# Altium footprint library Header34.PcbLib: 1 footprints
Each footprint in its own frame and in the unit in brackets; x right, y up, seen from the top. Pads: shape width x height; smd on the part's side, far side on the other; paste and mask are expansions set on the pad; w line width, h text height; cw(c..) or ccw(c..) is an arc to the next point about the centre after c.
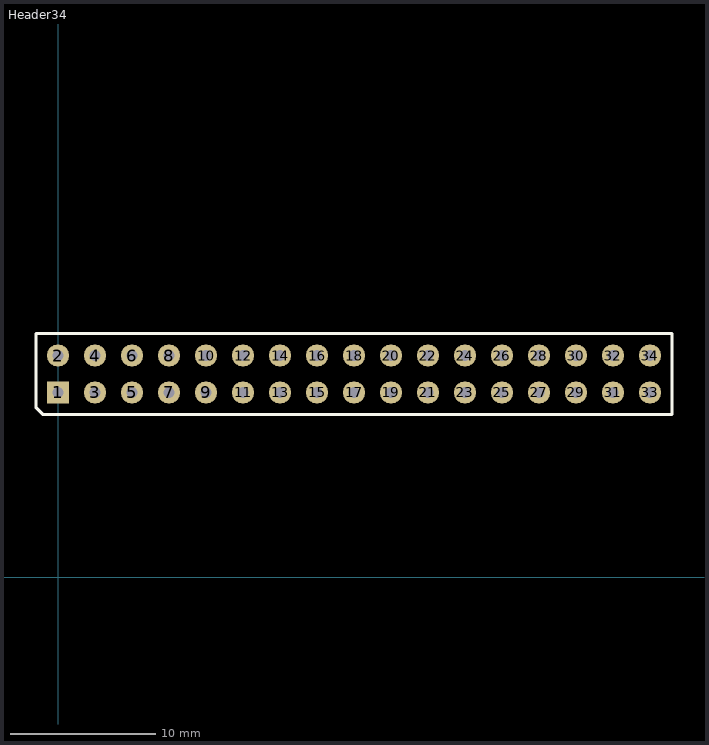
[diagram p0: the footprint, top view; thin cyan lines are the x and y axes]

## Header34 [mil]
pads (34):
  rect 60x60 hole 30: 1(0,500)
  round 60 hole 30: 2(0,600) 3(100,500) 4(100,600) 5(200,500) 6(200,600) 7(300,500) 8(300,600) 9(400,500) 10(400,600) 11(500,500) 12(500,600) 13(600,500) 14(600,600) 15(700,500) 16(700,600) 17(800,500) 18(800,600) 19(900,500) 20(900,600) 21(1000,500) 22(1000,600) 23(1100,500) 24(1100,600) 25(1200,500) 26(1200,600) 27(1300,500) 28(1300,600) 29(1400,500) 30(1400,600) 31(1500,500) 32(1500,600) 33(1600,500) 34(1600,600)
Top Overlay:
  lines w7.87: -60,460 -40,440 1660,440 1660,660 -60,660 -60,460